# Altium schematic symbol library kmilo17pet-Microchip_MixedSignal.SchLib: 1399 symbols (part 36 of 36)
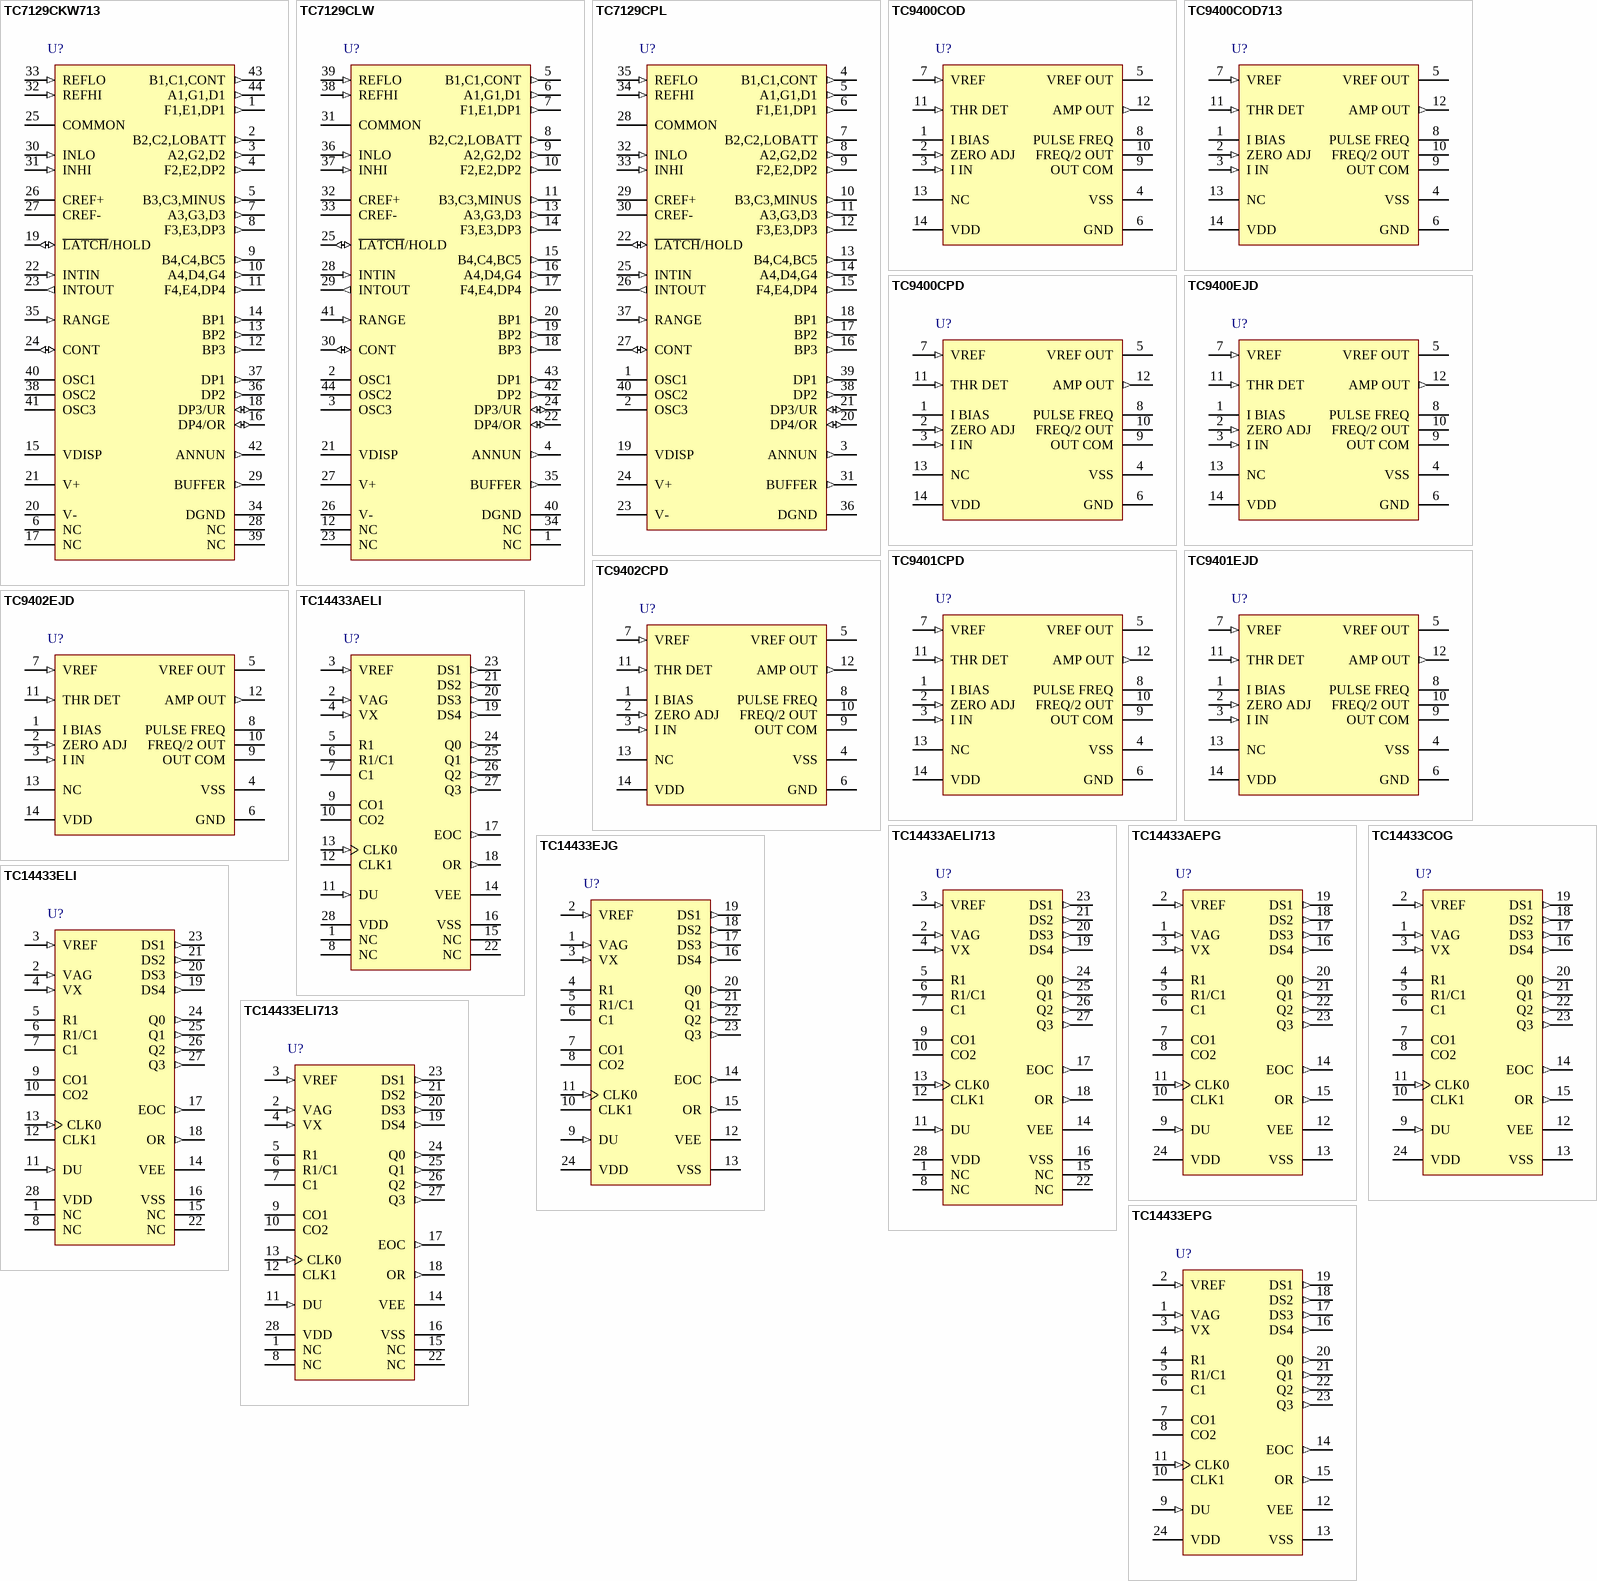
[diagram p79: symbols TC7129CKW713 to TC14433EPG]

## TC9400EJD
designator U?
Voltage-to-Frequency / Frequency-to-Voltage Converters, 14-Pin CERDIP 300mil, Extended Temperature; Manufacturer: Microchip; PartNumber: TC9400EJD; DatasheetVersion: revA, Sep-2006; PackageVersion: revBB, Aug-2009; PackageReference: CERDIP300-JD14; PackageDescription: 14-Lead Ceramic Dual In-Line (JD) - 300mil Body [CERDIP]; Supplier 1: Digi-Key; Supplier Part Number 1: TC9400EJD-ND; Mounting Technology: Through Hole; ComponentLink1Description: Manufacturer URL; ComponentLink1URL: http://www.microchip.com/; ComponentLink2Description: Datasheet; ComponentLink2URL: http://ww1.microchip.com/downloads/en/DeviceDoc/22011A.pdf; ComponentLink3Description: Package Specification; ComponentLink3URL: http://www.microchip.com/stellent/groups/techpub_sg/documents/packagingspec/en012702.pdf
footprint CERDIP300-JD14 (DIP, 14-Leads, Row Spacing 7.62mm, Pitch 2.54mm, Body 19.3x6.7mm)
pins: 1 I BIAS, 2 ZERO ADJ (in), 3 I IN (in), 4 VSS (power), 5 VREF OUT, 6 GND (power), 7 VREF (in), 8 PULSE FREQ (oc), 9 OUT COM (power), 10 FREQ/2 OUT (oc), 11 THR DET (in), 12 AMP OUT (out), 13 NC, 14 VDD (power)

## TC9401CPD
designator U?
Voltage-to-Frequency / Frequency-to-Voltage Converters, 14-Pin PDIP, Commercial Temperature; Manufacturer: Microchip; PartNumber: TC9401CPD; DatasheetVersion: revD, Sep-2007; PackageVersion: revBB, Aug-2009; PackageReference: PDIP300-PD14; PackageDescription: 14-Lead Plastic Dual In-Line (PD) - 300 mil Body [PDIP]; Supplier 1: Digi-Key; Supplier Part Number 1: TC9401CPD-ND; Mounting Technology: Through Hole; Code_JEDEC: MS-001-AA; ComponentLink1Description: Manufacturer URL; ComponentLink1URL: http://www.microchip.com/; ComponentLink2Description: Datasheet; ComponentLink2URL: http://ww1.microchip.com/downloads/en/DeviceDoc/21483d.pdf; ComponentLink3Description: Package Specification; ComponentLink3URL: http://www.microchip.com/stellent/groups/techpub_sg/documents/packagingspec/en012702.pdf
footprint PDIP300-PD14 (DIP, 14-Leads, Row Spacing 7.62mm, Pitch 2.54mm, Body 19.2x6.6mm)
pins: 1 I BIAS, 2 ZERO ADJ (in), 3 I IN (in), 4 VSS (power), 5 VREF OUT, 6 GND (power), 7 VREF (in), 8 PULSE FREQ (oc), 9 OUT COM (power), 10 FREQ/2 OUT (oc), 11 THR DET (in), 12 AMP OUT (out), 13 NC, 14 VDD (power)

## TC9401EJD
designator U?
Voltage-to-Frequency / Frequency-to-Voltage Converters, 14-Pin CERDIP 300mil, Extended Temperature; Manufacturer: Microchip; PartNumber: TC9401EJD; DatasheetVersion: revA, Sep-2006; PackageVersion: revBB, Aug-2009; PackageReference: CERDIP300-JD14; PackageDescription: 14-Lead Ceramic Dual In-Line (JD) - 300mil Body [CERDIP]; Supplier 1: Digi-Key; Supplier Part Number 1: TC9401EJD-ND; Mounting Technology: Through Hole; ComponentLink1Description: Manufacturer URL; ComponentLink1URL: http://www.microchip.com/; ComponentLink2Description: Datasheet; ComponentLink2URL: http://ww1.microchip.com/downloads/en/DeviceDoc/22011A.pdf; ComponentLink3Description: Package Specification; ComponentLink3URL: http://www.microchip.com/stellent/groups/techpub_sg/documents/packagingspec/en012702.pdf
footprint CERDIP300-JD14 (DIP, 14-Leads, Row Spacing 7.62mm, Pitch 2.54mm, Body 19.3x6.7mm)
pins: 1 I BIAS, 2 ZERO ADJ (in), 3 I IN (in), 4 VSS (power), 5 VREF OUT, 6 GND (power), 7 VREF (in), 8 PULSE FREQ (oc), 9 OUT COM (power), 10 FREQ/2 OUT (oc), 11 THR DET (in), 12 AMP OUT (out), 13 NC, 14 VDD (power)

## TC9402CPD
designator U?
Voltage-to-Frequency / Frequency-to-Voltage Converters, 14-Pin PDIP, Commercial Temperature; Manufacturer: Microchip; PartNumber: TC9402CPD; DatasheetVersion: revD, Sep-2007; PackageVersion: revBB, Aug-2009; PackageReference: PDIP300-PD14; PackageDescription: 14-Lead Plastic Dual In-Line (PD) - 300 mil Body [PDIP]; Supplier 1: Digi-Key; Supplier Part Number 1: TC9402CPD-ND; Mounting Technology: Through Hole; Code_JEDEC: MS-001-AA; ComponentLink1Description: Manufacturer URL; ComponentLink1URL: http://www.microchip.com/; ComponentLink2Description: Datasheet; ComponentLink2URL: http://ww1.microchip.com/downloads/en/DeviceDoc/21483d.pdf; ComponentLink3Description: Package Specification; ComponentLink3URL: http://www.microchip.com/stellent/groups/techpub_sg/documents/packagingspec/en012702.pdf
footprint PDIP300-PD14 (DIP, 14-Leads, Row Spacing 7.62mm, Pitch 2.54mm, Body 19.2x6.6mm)
pins: 1 I BIAS, 2 ZERO ADJ (in), 3 I IN (in), 4 VSS (power), 5 VREF OUT, 6 GND (power), 7 VREF (in), 8 PULSE FREQ (oc), 9 OUT COM (power), 10 FREQ/2 OUT (oc), 11 THR DET (in), 12 AMP OUT (out), 13 NC, 14 VDD (power)

## TC9402EJD
designator U?
Voltage-to-Frequency / Frequency-to-Voltage Converters, 14-Pin CERDIP 300mil, Extended Temperature; Manufacturer: Microchip; PartNumber: TC9402EJD; DatasheetVersion: revA, Sep-2006; PackageVersion: revBB, Aug-2009; PackageReference: CERDIP300-JD14; PackageDescription: 14-Lead Ceramic Dual In-Line (JD) - 300mil Body [CERDIP]; Supplier 1: Digi-Key; Supplier Part Number 1: TC9402EJD-ND; Mounting Technology: Through Hole; ComponentLink1Description: Manufacturer URL; ComponentLink1URL: http://www.microchip.com/; ComponentLink2Description: Datasheet; ComponentLink2URL: http://ww1.microchip.com/downloads/en/DeviceDoc/22011A.pdf; ComponentLink3Description: Package Specification; ComponentLink3URL: http://www.microchip.com/stellent/groups/techpub_sg/documents/packagingspec/en012702.pdf
footprint CERDIP300-JD14 (DIP, 14-Leads, Row Spacing 7.62mm, Pitch 2.54mm, Body 19.3x6.7mm)
pins: 1 I BIAS, 2 ZERO ADJ (in), 3 I IN (in), 4 VSS (power), 5 VREF OUT, 6 GND (power), 7 VREF (in), 8 PULSE FREQ (oc), 9 OUT COM (power), 10 FREQ/2 OUT (oc), 11 THR DET (in), 12 AMP OUT (out), 13 NC, 14 VDD (power)

## TC14433AELI
designator U?
3-1/2 Digit, Analog-to-Digital Converter, 28-Pin PLCC, Extended Temperature; Manufacturer: Microchip; PartNumber: TC14433AELI; DatasheetVersion: revD, Jul-2008; PackageVersion: revBB, Aug-2009; PackageReference: PLCC-LI28; PackageDescription: 28-Lead Plastic Leaded Chip Carrier (LI) - Square [PLCC]; Supplier 1: Digi-Key; Supplier Part Number 1: TC14433AELI-ND; Mounting Technology: Surface Mount; Code_IPC: PLCC-28; ComponentLink1Description: Manufacturer URL; ComponentLink1URL: http://www.microchip.com/; ComponentLink2Description: Datasheet; ComponentLink2URL: http://ww1.microchip.com/downloads/en/DeviceDoc/21394d.pdf; ComponentLink3Description: Package Specification; ComponentLink3URL: http://www.microchip.com/stellent/groups/techpub_sg/documents/packagingspec/en012702.pdf
footprint PLCC-LI28_N (Leaded Chip Carrier, 28-Leads, Body 11.5x11.5mm, Pitch 1.27mm, IPC Medium Density)
footprint PLCC-LI28_L (Leaded Chip Carrier, 28-Leads, Body 11.5x11.5mm, Pitch 1.27mm, IPC High Density)
footprint PLCC-LI28_M (Leaded Chip Carrier, 28-Leads, Body 11.5x11.5mm, Pitch 1.27mm, IPC Low Density)
pins: 1 NC, 2 VAG (in), 3 VREF (in), 4 VX (in), 5 R1, 6 R1/C1, 7 C1, 8 NC, 9 CO1, 10 CO2, 11 DU (in), 12 CLK1, 13 CLK0 (in), 14 VEE (power), 15 NC, 16 VSS (power), 17 EOC (out), 18 OR (out), 19 DS4 (out), 20 DS3 (out), 21 DS2 (out), 22 NC, 23 DS1 (out), 24 Q0 (out), 25 Q1 (out), 26 Q2 (out), 27 Q3 (out), 28 VDD (power)

## TC14433AELI713
designator U?
3-1/2 Digit, Analog-to-Digital Converter, 28-Pin PLCC, Extended Temperature, Tape and Reel; Manufacturer: Microchip; PartNumber: TC14433AELI713; DatasheetVersion: revD, Jul-2008; PackageVersion: revBB, Aug-2009; PackageReference: PLCC-LI28; PackageDescription: 28-Lead Plastic Leaded Chip Carrier (LI) - Square [PLCC]; Supplier 1: Digi-Key; Supplier Part Number 1: TC14433AELI713-ND; Mounting Technology: Surface Mount; Code_IPC: PLCC-28; ComponentLink1Description: Manufacturer URL; ComponentLink1URL: http://www.microchip.com/; ComponentLink2Description: Datasheet; ComponentLink2URL: http://ww1.microchip.com/downloads/en/DeviceDoc/21394d.pdf; ComponentLink3Description: Package Specification; ComponentLink3URL: http://www.microchip.com/stellent/groups/techpub_sg/documents/packagingspec/en012702.pdf
footprint PLCC-LI28_N (Leaded Chip Carrier, 28-Leads, Body 11.5x11.5mm, Pitch 1.27mm, IPC Medium Density)
footprint PLCC-LI28_L (Leaded Chip Carrier, 28-Leads, Body 11.5x11.5mm, Pitch 1.27mm, IPC High Density)
footprint PLCC-LI28_M (Leaded Chip Carrier, 28-Leads, Body 11.5x11.5mm, Pitch 1.27mm, IPC Low Density)
pins: 1 NC, 2 VAG (in), 3 VREF (in), 4 VX (in), 5 R1, 6 R1/C1, 7 C1, 8 NC, 9 CO1, 10 CO2, 11 DU (in), 12 CLK1, 13 CLK0 (in), 14 VEE (power), 15 NC, 16 VSS (power), 17 EOC (out), 18 OR (out), 19 DS4 (out), 20 DS3 (out), 21 DS2 (out), 22 NC, 23 DS1 (out), 24 Q0 (out), 25 Q1 (out), 26 Q2 (out), 27 Q3 (out), 28 VDD (power)

## TC14433AEPG
designator U?
3-1/2 Digit, Analog-to-Digital Converter, 24-Pin PDIP 600mil, Extended Temperature; Manufacturer: Microchip; PartNumber: TC14433AEPG; DatasheetVersion: revD, Jul-2008; PackageVersion: revBB, Aug-2009; PackageReference: PDIP600-PG24; PackageDescription: 24-Lead Plastic Dual In-Line (PG) - 600 mil Body [PDIP]; Supplier 1: Digi-Key; Supplier Part Number 1: TC14433AEPG-ND; Mounting Technology: Through Hole; Code_JEDEC: MS-011-AA; ComponentLink1Description: Manufacturer URL; ComponentLink1URL: http://www.microchip.com/; ComponentLink2Description: Datasheet; ComponentLink2URL: http://ww1.microchip.com/downloads/en/DeviceDoc/21394d.pdf; ComponentLink3Description: Package Specification; ComponentLink3URL: http://www.microchip.com/stellent/groups/techpub_sg/documents/packagingspec/en012702.pdf
footprint PDIP600-PG24 (DIP, 24-Leads, Row Spacing 15.24mm, Pitch 2.54mm, Body 31x13.5mm)
pins: 1 VAG (in), 2 VREF (in), 3 VX (in), 4 R1, 5 R1/C1, 6 C1, 7 CO1, 8 CO2, 9 DU (in), 10 CLK1, 11 CLK0 (in), 12 VEE (power), 13 VSS (power), 14 EOC (out), 15 OR (out), 16 DS4 (out), 17 DS3 (out), 18 DS2 (out), 19 DS1 (out), 20 Q0 (out), 21 Q1 (out), 22 Q2 (out), 23 Q3 (out), 24 VDD (power)

## TC14433COG
designator U?
3-1/2 Digit, Analog-to-Digital Converter, 24-Pin SOIC 300mil, Commercial Temperature; Manufacturer: Microchip; PartNumber: TC14433COG; DatasheetVersion: revD, Jul-2008; PackageVersion: revBB, Aug-2009; PackageReference: SOIC-OG24; PackageDescription: 24-Lead Plastic Small Outline (OG) - Wide 7.50mm Body [SOIC]; Supplier 1: Digi-Key; Supplier Part Number 1: TC14433COG-ND; Mounting Technology: Surface Mount; Code_JEDEC: MS-013-AD; ComponentLink1Description: Manufacturer URL; ComponentLink1URL: http://www.microchip.com/; ComponentLink2Description: Datasheet; ComponentLink2URL: http://ww1.microchip.com/downloads/en/DeviceDoc/21394d.pdf; ComponentLink3Description: Package Specification; ComponentLink3URL: http://www.microchip.com/stellent/groups/techpub_sg/documents/packagingspec/en012702.pdf
footprint SOIC-OG24_N (SOIC, 24-Leads, Body 15.4x7.5mm, Pitch 1.27mm, IPC Medium Density)
footprint SOIC-OG24_L (SOIC, 24-Leads, Body 15.4x7.5mm, Pitch 1.27mm, IPC High Density)
footprint SOIC-OG24_M (SOIC, 24-Leads, Body 15.4x7.5mm, Pitch 1.27mm, IPC Low Density)
pins: 1 VAG (in), 2 VREF (in), 3 VX (in), 4 R1, 5 R1/C1, 6 C1, 7 CO1, 8 CO2, 9 DU (in), 10 CLK1, 11 CLK0 (in), 12 VEE (power), 13 VSS (power), 14 EOC (out), 15 OR (out), 16 DS4 (out), 17 DS3 (out), 18 DS2 (out), 19 DS1 (out), 20 Q0 (out), 21 Q1 (out), 22 Q2 (out), 23 Q3 (out), 24 VDD (power)

## TC14433EJG
designator U?
3-1/2 Digit, Analog-to-Digital Converter, 24-Pin CERDIP, ExtendedTemperature; Manufacturer: Microchip; PartNumber: TC14433EJG; DatasheetVersion: revD, Jul-2008; PackageVersion: revBB, Aug-2009; PackageReference: CERDIP600-JG24; PackageDescription: 24-Lead Ceramic Dual In-Line (JG) - 600mil Body [CERDIP]; Supplier 1: Digi-Key; Supplier Part Number 1: TC14433EJG-ND; Mounting Technology: Through Hole; ComponentLink1Description: Manufacturer URL; ComponentLink1URL: http://www.microchip.com/; ComponentLink2Description: Datasheet; ComponentLink2URL: http://ww1.microchip.com/downloads/en/DeviceDoc/21394d.pdf; ComponentLink3Description: Package Specification; ComponentLink3URL: http://www.microchip.com/stellent/groups/techpub_sg/documents/packagingspec/en012702.pdf
footprint CERDIP600-JG24 (DIP, 24-Leads, Row Spacing 15.24mm, Pitch 2.54mm, Body 31.9x13.3mm)
pins: 1 VAG (in), 2 VREF (in), 3 VX (in), 4 R1, 5 R1/C1, 6 C1, 7 CO1, 8 CO2, 9 DU (in), 10 CLK1, 11 CLK0 (in), 12 VEE (power), 13 VSS (power), 14 EOC (out), 15 OR (out), 16 DS4 (out), 17 DS3 (out), 18 DS2 (out), 19 DS1 (out), 20 Q0 (out), 21 Q1 (out), 22 Q2 (out), 23 Q3 (out), 24 VDD (power)

## TC14433ELI
designator U?
3-1/2 Digit, Analog-to-Digital Converter, 28-Pin PLCC, Extended Temperature; Manufacturer: Microchip; PartNumber: TC14433ELI; DatasheetVersion: revD, Jul-2008; PackageVersion: revBB, Aug-2009; PackageReference: PLCC-LI28; PackageDescription: 28-Lead Plastic Leaded Chip Carrier (LI) - Square [PLCC]; Supplier 1: Digi-Key; Supplier Part Number 1: TC14433ELI-ND; Mounting Technology: Surface Mount; Code_IPC: PLCC-28; ComponentLink1Description: Manufacturer URL; ComponentLink1URL: http://www.microchip.com/; ComponentLink2Description: Datasheet; ComponentLink2URL: http://ww1.microchip.com/downloads/en/DeviceDoc/21394d.pdf; ComponentLink3Description: Package Specification; ComponentLink3URL: http://www.microchip.com/stellent/groups/techpub_sg/documents/packagingspec/en012702.pdf
footprint PLCC-LI28_N (Leaded Chip Carrier, 28-Leads, Body 11.5x11.5mm, Pitch 1.27mm, IPC Medium Density)
footprint PLCC-LI28_L (Leaded Chip Carrier, 28-Leads, Body 11.5x11.5mm, Pitch 1.27mm, IPC High Density)
footprint PLCC-LI28_M (Leaded Chip Carrier, 28-Leads, Body 11.5x11.5mm, Pitch 1.27mm, IPC Low Density)
pins: 1 NC, 2 VAG (in), 3 VREF (in), 4 VX (in), 5 R1, 6 R1/C1, 7 C1, 8 NC, 9 CO1, 10 CO2, 11 DU (in), 12 CLK1, 13 CLK0 (in), 14 VEE (power), 15 NC, 16 VSS (power), 17 EOC (out), 18 OR (out), 19 DS4 (out), 20 DS3 (out), 21 DS2 (out), 22 NC, 23 DS1 (out), 24 Q0 (out), 25 Q1 (out), 26 Q2 (out), 27 Q3 (out), 28 VDD (power)

## TC14433ELI713
designator U?
3-1/2 Digit, Analog-to-Digital Converter, 28-Pin PLCC, Extended Temperature, Tape and Reel; Manufacturer: Microchip; PartNumber: TC14433ELI713; DatasheetVersion: revD, Jul-2008; PackageVersion: revBB, Aug-2009; PackageReference: PLCC-LI28; PackageDescription: 28-Lead Plastic Leaded Chip Carrier (LI) - Square [PLCC]; Supplier 1: Digi-Key; Supplier Part Number 1: TC14433ELI713-ND; Mounting Technology: Surface Mount; Code_IPC: PLCC-28; ComponentLink1Description: Manufacturer URL; ComponentLink1URL: http://www.microchip.com/; ComponentLink2Description: Datasheet; ComponentLink2URL: http://ww1.microchip.com/downloads/en/DeviceDoc/21394d.pdf; ComponentLink3Description: Package Specification; ComponentLink3URL: http://www.microchip.com/stellent/groups/techpub_sg/documents/packagingspec/en012702.pdf
footprint PLCC-LI28_N (Leaded Chip Carrier, 28-Leads, Body 11.5x11.5mm, Pitch 1.27mm, IPC Medium Density)
footprint PLCC-LI28_L (Leaded Chip Carrier, 28-Leads, Body 11.5x11.5mm, Pitch 1.27mm, IPC High Density)
footprint PLCC-LI28_M (Leaded Chip Carrier, 28-Leads, Body 11.5x11.5mm, Pitch 1.27mm, IPC Low Density)
pins: 1 NC, 2 VAG (in), 3 VREF (in), 4 VX (in), 5 R1, 6 R1/C1, 7 C1, 8 NC, 9 CO1, 10 CO2, 11 DU (in), 12 CLK1, 13 CLK0 (in), 14 VEE (power), 15 NC, 16 VSS (power), 17 EOC (out), 18 OR (out), 19 DS4 (out), 20 DS3 (out), 21 DS2 (out), 22 NC, 23 DS1 (out), 24 Q0 (out), 25 Q1 (out), 26 Q2 (out), 27 Q3 (out), 28 VDD (power)

## TC14433EPG
designator U?
3-1/2 Digit, Analog-to-Digital Converter, 24-Pin PDIP 600mil, Extended Temperature; Manufacturer: Microchip; PartNumber: TC14433EPG; DatasheetVersion: revD, Jul-2008; PackageVersion: revBB, Aug-2009; PackageReference: PDIP600-PG24; PackageDescription: 24-Lead Plastic Dual In-Line (PG) - 600 mil Body [PDIP]; Supplier 1: Digi-Key; Supplier Part Number 1: TC14433EPG-ND; Mounting Technology: Through Hole; Code_JEDEC: MS-011-AA; ComponentLink1Description: Manufacturer URL; ComponentLink1URL: http://www.microchip.com/; ComponentLink2Description: Datasheet; ComponentLink2URL: http://ww1.microchip.com/downloads/en/DeviceDoc/21394d.pdf; ComponentLink3Description: Package Specification; ComponentLink3URL: http://www.microchip.com/stellent/groups/techpub_sg/documents/packagingspec/en012702.pdf
footprint PDIP600-PG24 (DIP, 24-Leads, Row Spacing 15.24mm, Pitch 2.54mm, Body 31x13.5mm)
pins: 1 VAG (in), 2 VREF (in), 3 VX (in), 4 R1, 5 R1/C1, 6 C1, 7 CO1, 8 CO2, 9 DU (in), 10 CLK1, 11 CLK0 (in), 12 VEE (power), 13 VSS (power), 14 EOC (out), 15 OR (out), 16 DS4 (out), 17 DS3 (out), 18 DS2 (out), 19 DS1 (out), 20 Q0 (out), 21 Q1 (out), 22 Q2 (out), 23 Q3 (out), 24 VDD (power)